# Altium footprint library DFN.PcbLib: 4 footprints
Each footprint in its own frame and in the unit in brackets; x right, y up, seen from the top. Pads: shape width x height; smd on the part's side, far side on the other; paste and mask are expansions set on the pad; w line width, h text height; cw(c..) or ccw(c..) is an arc to the next point about the centre after c.
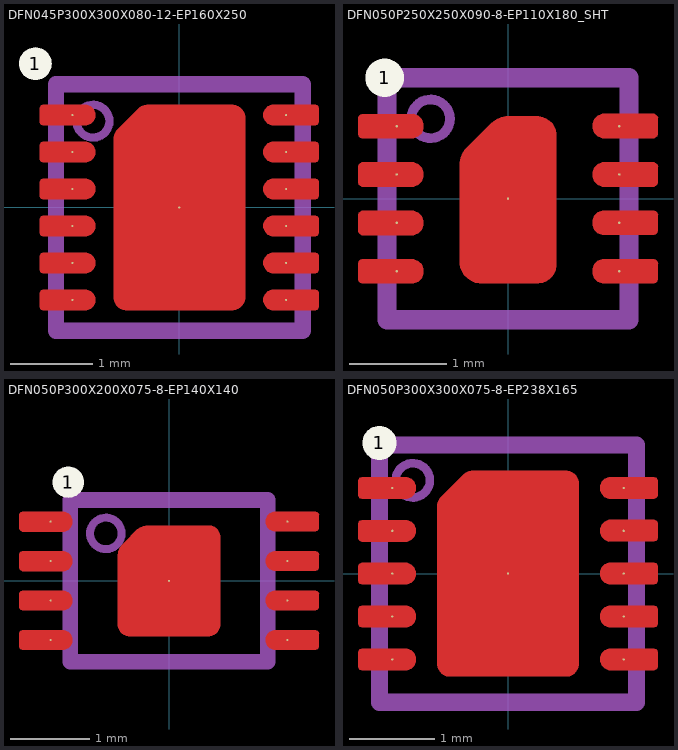
[diagram p0: the footprints below, top view; thin cyan lines are the x and y axes]

## DFN045P300X300X080-12-EP160X250 [mm]
pads (14):
  round 0.4 on Top Overlay: 1(-1.75,1.75)
  round 0.025 smd: 1(-1.3,1.125) 2(-1.3,0.675) 3(-1.3,0.225) 4(-1.3,-0.225) 5(-1.3,-0.675) 6(-1.3,-1.125) 7(1.3,-1.125) 8(1.3,-0.675) 9(1.3,-0.225) 10(1.3,0.225) 11(1.3,0.675) 12(1.3,1.125) EP(0,0)
Top Layer:
  region: 1.7,-1.05 1.7,-1.199 1.7,-1.209 1.692,-1.228 1.678,-1.242 1.659,-1.25 1.649,-1.25 1.15,-1.25 1.125,-1.25 1.079,-1.231 1.043,-1.196 1.024,-1.149 1.024,-1.124 1.024,-1.099 1.043,-1.053 1.079,-1.018 1.125,-0.999 1.15,-0.999 1.649,-0.999 1.659,-0.999 1.678,-1.007 1.692,-1.021 1.7,-1.04
  region: 1.7,-0.6 1.7,-0.749 1.7,-0.759 1.692,-0.778 1.678,-0.792 1.659,-0.8 1.649,-0.8 1.15,-0.8 1.125,-0.8 1.079,-0.781 1.043,-0.746 1.024,-0.699 1.024,-0.674 1.024,-0.649 1.043,-0.603 1.079,-0.568 1.125,-0.549 1.15,-0.549 1.649,-0.549 1.659,-0.549 1.678,-0.557 1.692,-0.571 1.7,-0.59
  region: 1.7,-0.15 1.7,-0.299 1.7,-0.309 1.692,-0.328 1.678,-0.342 1.659,-0.35 1.649,-0.35 1.15,-0.35 1.125,-0.35 1.079,-0.331 1.043,-0.296 1.024,-0.249 1.024,-0.224 1.024,-0.199 1.043,-0.153 1.079,-0.118 1.125,-0.099 1.15,-0.099 1.649,-0.099 1.659,-0.099 1.678,-0.107 1.692,-0.121 1.7,-0.14
  region: 1.7,0.3 1.7,0.151 1.7,0.141 1.692,0.122 1.678,0.108 1.659,0.1 1.649,0.1 1.15,0.1 1.125,0.1 1.079,0.119 1.043,0.154 1.024,0.201 1.024,0.226 1.024,0.251 1.043,0.297 1.079,0.332 1.125,0.351 1.15,0.351 1.649,0.351 1.659,0.351 1.678,0.343 1.692,0.329 1.7,0.31
  region: 1.7,0.75 1.7,0.601 1.7,0.591 1.692,0.572 1.678,0.558 1.659,0.55 1.649,0.55 1.15,0.55 1.125,0.55 1.079,0.569 1.043,0.604 1.024,0.651 1.024,0.676 1.024,0.701 1.043,0.747 1.079,0.782 1.125,0.801 1.15,0.801 1.649,0.801 1.659,0.801 1.678,0.793 1.692,0.779 1.7,0.76
  region: 1.7,1.2 1.7,1.051 1.7,1.041 1.692,1.022 1.678,1.008 1.659,1 1.649,1 1.15,1 1.125,1 1.079,1.019 1.043,1.054 1.024,1.101 1.024,1.126 1.024,1.151 1.043,1.197 1.079,1.232 1.125,1.251 1.15,1.251 1.649,1.251 1.659,1.251 1.678,1.243 1.692,1.229 1.7,1.21
  region: -1.7,-1.2 -1.7,-1.051 -1.7,-1.041 -1.692,-1.022 -1.678,-1.008 -1.659,-1 -1.649,-1 -1.15,-1 -1.125,-1 -1.079,-1.019 -1.043,-1.054 -1.024,-1.101 -1.024,-1.126 -1.024,-1.151 -1.043,-1.197 -1.079,-1.232 -1.125,-1.251 -1.15,-1.251 -1.649,-1.251 -1.659,-1.251 -1.678,-1.243 -1.692,-1.229 -1.7,-1.21
  region: -1.7,-0.75 -1.7,-0.601 -1.7,-0.591 -1.692,-0.572 -1.678,-0.558 -1.659,-0.55 -1.649,-0.55 -1.15,-0.55 -1.125,-0.55 -1.079,-0.569 -1.043,-0.604 -1.024,-0.651 -1.024,-0.676 -1.024,-0.701 -1.043,-0.747 -1.079,-0.782 -1.125,-0.801 -1.15,-0.801 -1.649,-0.801 -1.659,-0.801 -1.678,-0.793 -1.692,-0.779 -1.7,-0.76
  region: -1.7,-0.3 -1.7,-0.151 -1.7,-0.141 -1.692,-0.122 -1.678,-0.108 -1.659,-0.1 -1.649,-0.1 -1.15,-0.1 -1.125,-0.1 -1.079,-0.119 -1.043,-0.154 -1.024,-0.201 -1.024,-0.226 -1.024,-0.251 -1.043,-0.297 -1.079,-0.332 -1.125,-0.351 -1.15,-0.351 -1.649,-0.351 -1.659,-0.351 -1.678,-0.343 -1.692,-0.329 -1.7,-0.31
  region: -1.7,0.15 -1.7,0.299 -1.7,0.309 -1.692,0.328 -1.678,0.342 -1.659,0.35 -1.649,0.35 -1.15,0.35 -1.125,0.35 -1.079,0.331 -1.043,0.296 -1.024,0.249 -1.024,0.224 -1.024,0.199 -1.043,0.153 -1.079,0.118 -1.125,0.099 -1.15,0.099 -1.649,0.099 -1.659,0.099 -1.678,0.107 -1.692,0.121 -1.7,0.14
  region: -1.7,1.05 -1.7,1.199 -1.7,1.209 -1.692,1.228 -1.678,1.242 -1.659,1.25 -1.649,1.25 -1.15,1.25 -1.125,1.25 -1.079,1.231 -1.043,1.196 -1.024,1.149 -1.024,1.124 -1.024,1.099 -1.043,1.053 -1.079,1.018 -1.125,0.999 -1.15,0.999 -1.649,0.999 -1.659,0.999 -1.678,1.007 -1.692,1.021 -1.7,1.04
  region: -0.8,0 -0.8,-1.09 -0.8,-1.106 -0.794,-1.137 -0.782,-1.166 -0.764,-1.192 -0.742,-1.214 -0.716,-1.232 -0.687,-1.244 -0.656,-1.25 -0.64,-1.25 0.64,-1.25 0.656,-1.25 0.687,-1.244 0.716,-1.232 0.742,-1.214 0.764,-1.192 0.782,-1.166 0.794,-1.137 0.8,-1.106 0.8,-1.09 0.8,1.09 0.8,1.106 0.794,1.137 0.782,1.166 0.764,1.192 0.742,1.214 0.716,1.232 0.687,1.244 0.656,1.25 0.64,1.25 0,1.25 -0.379,1.25 -0.396,1.25 -0.429,1.243 -0.46,1.231 -0.488,1.212 -0.5,1.2 -0.75,0.95 -0.762,0.938 -0.781,0.91 -0.793,0.879 -0.8,0.846 -0.8,0.829 -0.8,0.5
  region: -1.7,0.6 -1.7,0.749 -1.7,0.759 -1.692,0.778 -1.678,0.792 -1.659,0.8 -1.649,0.8 -1.15,0.8 -1.125,0.8 -1.079,0.781 -1.043,0.746 -1.024,0.699 -1.024,0.674 -1.024,0.649 -1.043,0.603 -1.079,0.568 -1.125,0.549 -1.15,0.549 -1.649,0.549 -1.659,0.549 -1.678,0.557 -1.692,0.571 -1.7,0.59
Top Assembly:
  circle w0.1: c-1.05,1.05 r0.2
  lines w0.2: -1.5,-1.5 1.5,-1.5 1.5,1.5 -1.5,1.5 -1.5,-1.5
3D body: height 0.81, standoff 0.8, extent -1.25,0.9 -0.85,1.3
3D body: height 0.2, standoff 0, extent -0.8,-1.25 0.8,1.25
3D body: height 0.2, standoff 0, extent 1.01,-1.275 1.51,-0.975
3D body: height 0.2, standoff 0, extent 1.01,-0.825 1.51,-0.525
3D body: height 0.2, standoff 0, extent 1.01,-0.375 1.51,-0.075
3D body: height 0.2, standoff 0, extent 1.01,0.975 1.51,1.275
3D body: height 0.2, standoff 0, extent 1.01,0.525 1.51,0.825
3D body: height 0.2, standoff 0, extent 1.01,0.075 1.51,0.375
3D body: height 0.2, standoff 0, extent -1.51,-1.275 -1.01,-0.975
3D body: height 0.2, standoff 0, extent -1.51,-0.825 -1.01,-0.525
3D body: height 0.2, standoff 0, extent -1.51,-0.375 -1.01,-0.075
3D body: height 0.2, standoff 0, extent -1.51,0.975 -1.01,1.275
3D body: height 0.2, standoff 0, extent -1.51,0.525 -1.01,0.825
3D body: height 0.2, standoff 0, extent -1.51,0.075 -1.01,0.375
3D body: height 0.8, standoff 0.02, extent -1.5,-1.5 1.5,1.5

## DFN050P250X250X090-8-EP110X180_SHT [mm]
pads (10):
  round 0.4 on Top Overlay: 1(-1.275,1.25)
  round 0.025 smd mask+0.05: 1(-1.15,0.75) 2(-1.15,0.25) 3(-1.15,-0.25) 4(-1.15,-0.75) 5(1.15,-0.75) 6(1.15,-0.25) 7(1.15,0.25) 8(1.15,0.75)
  round 0.025 smd: EP(0,0)
Top Layer:
  region: 1.55,-0.675 1.55,-0.824 1.55,-0.834 1.542,-0.853 1.528,-0.867 1.509,-0.875 1.499,-0.875 1,-0.875 0.975,-0.875 0.929,-0.856 0.893,-0.821 0.874,-0.774 0.874,-0.749 0.874,-0.724 0.893,-0.678 0.929,-0.643 0.975,-0.624 1,-0.624 1.499,-0.624 1.509,-0.624 1.528,-0.632 1.542,-0.646 1.55,-0.665
  region: 1.55,-0.175 1.55,-0.324 1.55,-0.334 1.542,-0.353 1.528,-0.367 1.509,-0.375 1.499,-0.375 1,-0.375 0.975,-0.375 0.929,-0.356 0.893,-0.321 0.874,-0.274 0.874,-0.249 0.874,-0.224 0.893,-0.178 0.929,-0.143 0.975,-0.124 1,-0.124 1.499,-0.124 1.509,-0.124 1.528,-0.132 1.542,-0.146 1.55,-0.165
  region: 1.55,0.325 1.55,0.176 1.55,0.166 1.542,0.147 1.528,0.133 1.509,0.125 1.499,0.125 1,0.125 0.975,0.125 0.929,0.144 0.893,0.179 0.874,0.226 0.874,0.251 0.874,0.276 0.893,0.322 0.929,0.357 0.975,0.376 1,0.376 1.499,0.376 1.509,0.376 1.528,0.368 1.542,0.354 1.55,0.335
  region: 1.55,0.825 1.55,0.676 1.55,0.666 1.542,0.647 1.528,0.633 1.509,0.625 1.499,0.625 1,0.625 0.975,0.625 0.929,0.644 0.893,0.679 0.874,0.726 0.874,0.751 0.874,0.776 0.893,0.822 0.929,0.857 0.975,0.876 1,0.876 1.499,0.876 1.509,0.876 1.528,0.868 1.542,0.854 1.55,0.835
  region: -1.55,-0.825 -1.55,-0.676 -1.55,-0.666 -1.542,-0.647 -1.528,-0.633 -1.509,-0.625 -1.499,-0.625 -1,-0.625 -0.975,-0.625 -0.929,-0.644 -0.893,-0.679 -0.874,-0.726 -0.874,-0.751 -0.874,-0.776 -0.893,-0.822 -0.929,-0.857 -0.975,-0.876 -1,-0.876 -1.499,-0.876 -1.509,-0.876 -1.528,-0.868 -1.542,-0.854 -1.55,-0.835
  region: -1.55,-0.325 -1.55,-0.176 -1.55,-0.166 -1.542,-0.147 -1.528,-0.133 -1.509,-0.125 -1.499,-0.125 -1,-0.125 -0.975,-0.125 -0.929,-0.144 -0.893,-0.179 -0.874,-0.226 -0.874,-0.251 -0.874,-0.276 -0.893,-0.322 -0.929,-0.357 -0.975,-0.376 -1,-0.376 -1.499,-0.376 -1.509,-0.376 -1.528,-0.368 -1.542,-0.354 -1.55,-0.335
  region: -1.55,0.675 -1.55,0.824 -1.55,0.834 -1.542,0.853 -1.528,0.867 -1.509,0.875 -1.499,0.875 -1,0.875 -0.975,0.875 -0.929,0.856 -0.893,0.821 -0.874,0.774 -0.874,0.749 -0.874,0.724 -0.893,0.678 -0.929,0.643 -0.975,0.624 -1,0.624 -1.499,0.624 -1.509,0.624 -1.528,0.632 -1.542,0.646 -1.55,0.665
  region: -1.55,0.175 -1.55,0.324 -1.55,0.334 -1.542,0.353 -1.528,0.367 -1.509,0.375 -1.499,0.375 -1,0.375 -0.975,0.375 -0.929,0.356 -0.893,0.321 -0.874,0.274 -0.874,0.249 -0.874,0.224 -0.893,0.178 -0.929,0.143 -0.975,0.124 -1,0.124 -1.499,0.124 -1.509,0.124 -1.528,0.132 -1.542,0.146 -1.55,0.165
  region: -0.5,-0.65 -0.5,-0.672 -0.491,-0.716 -0.474,-0.757 -0.45,-0.793 -0.418,-0.825 -0.382,-0.849 -0.341,-0.866 -0.297,-0.875 -0.275,-0.875 0.3,-0.875 0.32,-0.875 0.358,-0.867 0.395,-0.852 0.427,-0.83 0.455,-0.802 0.477,-0.77 0.492,-0.733 0.5,-0.695 0.5,-0.675 0.5,0.65 0.5,0.67 0.492,0.708 0.477,0.745 0.455,0.777 0.427,0.805 0.395,0.827 0.358,0.842 0.32,0.85 0.3,0.85 0,0.85 -0.024,0.85 -0.07,0.841 -0.114,0.823 -0.154,0.796 -0.171,0.779 -0.429,0.521 -0.446,0.504 -0.473,0.464 -0.491,0.42 -0.5,0.374 -0.5,0.35
Top Assembly:
  circle w0.1: c-0.8,0.825 r0.2
  lines w0.2: -1.25,-1.25 1.25,-1.25 1.25,1.25 -1.25,1.25 -1.25,-1.25
3D body "DFN050P250X250X090-8-EP110X180.stp": height 0.96, standoff 0.01, extent -1.255,-1.26 1.255,1.26

## DFN050P300X200X075-8-EP140X140 [mm]
pads (10):
  round 0.025 smd mask+0.05: 1(-1.5,0.75) 2(-1.5,0.25) 3(-1.5,-0.25) 4(-1.5,-0.75) 5(1.5,-0.75) 6(1.5,-0.25) 7(1.5,0.25) 8(1.5,0.75)
  round 0.4 on Top Overlay: 1(-1.275,1.25)
  round 0.025 smd: EP(0,0)
Top Layer:
  region: 1.9,-0.675 1.9,-0.824 1.9,-0.834 1.892,-0.853 1.878,-0.867 1.859,-0.875 1.849,-0.875 1.35,-0.875 1.325,-0.875 1.279,-0.856 1.243,-0.821 1.224,-0.774 1.224,-0.749 1.224,-0.724 1.243,-0.678 1.279,-0.643 1.325,-0.624 1.35,-0.624 1.849,-0.624 1.859,-0.624 1.878,-0.632 1.892,-0.646 1.9,-0.665
  region: 1.9,-0.175 1.9,-0.324 1.9,-0.334 1.892,-0.353 1.878,-0.367 1.859,-0.375 1.849,-0.375 1.35,-0.375 1.325,-0.375 1.279,-0.356 1.243,-0.321 1.224,-0.274 1.224,-0.249 1.224,-0.224 1.243,-0.178 1.279,-0.143 1.325,-0.124 1.35,-0.124 1.849,-0.124 1.859,-0.124 1.878,-0.132 1.892,-0.146 1.9,-0.165
  region: 1.9,0.325 1.9,0.176 1.9,0.166 1.892,0.147 1.878,0.133 1.859,0.125 1.849,0.125 1.35,0.125 1.325,0.125 1.279,0.144 1.243,0.179 1.224,0.226 1.224,0.251 1.224,0.276 1.243,0.322 1.279,0.357 1.325,0.376 1.35,0.376 1.849,0.376 1.859,0.376 1.878,0.368 1.892,0.354 1.9,0.335
  region: 1.9,0.825 1.9,0.676 1.9,0.666 1.892,0.647 1.878,0.633 1.859,0.625 1.849,0.625 1.35,0.625 1.325,0.625 1.279,0.644 1.243,0.679 1.224,0.726 1.224,0.751 1.224,0.776 1.243,0.822 1.279,0.857 1.325,0.876 1.35,0.876 1.849,0.876 1.859,0.876 1.878,0.868 1.892,0.854 1.9,0.835
  region: -1.9,-0.825 -1.9,-0.676 -1.9,-0.666 -1.892,-0.647 -1.878,-0.633 -1.859,-0.625 -1.849,-0.625 -1.35,-0.625 -1.325,-0.625 -1.279,-0.644 -1.243,-0.679 -1.224,-0.726 -1.224,-0.751 -1.224,-0.776 -1.243,-0.822 -1.279,-0.857 -1.325,-0.876 -1.35,-0.876 -1.849,-0.876 -1.859,-0.876 -1.878,-0.868 -1.892,-0.854 -1.9,-0.835
  region: -1.9,-0.325 -1.9,-0.176 -1.9,-0.166 -1.892,-0.147 -1.878,-0.133 -1.859,-0.125 -1.849,-0.125 -1.35,-0.125 -1.325,-0.125 -1.279,-0.144 -1.243,-0.179 -1.224,-0.226 -1.224,-0.251 -1.224,-0.276 -1.243,-0.322 -1.279,-0.357 -1.325,-0.376 -1.35,-0.376 -1.849,-0.376 -1.859,-0.376 -1.878,-0.368 -1.892,-0.354 -1.9,-0.335
  region: -1.9,0.675 -1.9,0.824 -1.9,0.834 -1.892,0.853 -1.878,0.867 -1.859,0.875 -1.849,0.875 -1.35,0.875 -1.325,0.875 -1.279,0.856 -1.243,0.821 -1.224,0.774 -1.224,0.749 -1.224,0.724 -1.243,0.678 -1.279,0.643 -1.325,0.624 -1.35,0.624 -1.849,0.624 -1.859,0.624 -1.878,0.632 -1.892,0.646 -1.9,0.665
  region: -1.9,0.175 -1.9,0.324 -1.9,0.334 -1.892,0.353 -1.878,0.367 -1.859,0.375 -1.849,0.375 -1.35,0.375 -1.325,0.375 -1.279,0.356 -1.243,0.321 -1.224,0.274 -1.224,0.249 -1.224,0.224 -1.243,0.178 -1.279,0.143 -1.325,0.124 -1.35,0.124 -1.849,0.124 -1.859,0.124 -1.878,0.132 -1.892,0.146 -1.9,0.165
  region: -0.65,-0.55 -0.65,0.294 -0.65,0.319 -0.64,0.369 -0.621,0.415 -0.593,0.457 -0.575,0.475 -0.4,0.65 -0.388,0.662 -0.36,0.681 -0.329,0.693 -0.296,0.7 -0.279,0.7 0.5,0.7 0.515,0.7 0.544,0.694 0.571,0.683 0.596,0.667 0.617,0.646 0.633,0.621 0.644,0.594 0.65,0.565 0.65,0.55 0.65,-0.55 0.65,-0.565 0.644,-0.594 0.633,-0.621 0.617,-0.646 0.596,-0.667 0.571,-0.683 0.544,-0.694 0.515,-0.7 0.5,-0.7 -0.5,-0.7 -0.515,-0.7 -0.544,-0.694 -0.571,-0.683 -0.596,-0.667 -0.617,-0.646 -0.633,-0.621 -0.644,-0.594 -0.65,-0.565
Top Assembly:
  circle w0.1: c-0.8,0.6 r0.2
  lines w0.2: -1.25,-1.025 1.25,-1.025 1.25,1.025 -1.25,1.025 -1.25,-1.025
3D body "DFN050P300X200X075-8-EP140X140.stp": height 0.96, standoff 0.01, extent -1.505,-1.01 1.505,1.01

## DFN050P300X300X075-8-EP238X165 [mm]
pads (12):
  round 0.4 on Top Overlay: 1(-1.5,1.525)
  round 0.025 smd mask+0.05: 1(-1.35,1) 2(-1.35,0.5) 3(-1.35,0) 4(-1.35,-0.5) 5(-1.35,-1) 6(1.35,-1) 7(1.35,-0.5) 8(1.35,0) 9(1.35,0.5) 10(1.35,1)
  round 0.025 smd: EP(0,0)
Top Layer:
  region: -1.75,-1.075 -1.75,-0.926 -1.75,-0.916 -1.742,-0.897 -1.728,-0.883 -1.709,-0.875 -1.699,-0.875 -1.2,-0.875 -1.175,-0.875 -1.129,-0.894 -1.093,-0.929 -1.074,-0.976 -1.074,-1.001 -1.074,-1.026 -1.093,-1.072 -1.129,-1.107 -1.175,-1.126 -1.2,-1.126 -1.699,-1.126 -1.709,-1.126 -1.728,-1.118 -1.742,-1.104 -1.75,-1.085
  region: 1.75,-0.925 1.75,-1.074 1.75,-1.084 1.742,-1.103 1.728,-1.117 1.709,-1.125 1.699,-1.125 1.2,-1.125 1.175,-1.125 1.129,-1.106 1.093,-1.071 1.074,-1.024 1.074,-0.999 1.074,-0.974 1.093,-0.928 1.129,-0.893 1.175,-0.874 1.2,-0.874 1.699,-0.874 1.709,-0.874 1.728,-0.882 1.742,-0.896 1.75,-0.915
  region: 1.75,-0.425 1.75,-0.574 1.75,-0.584 1.742,-0.603 1.728,-0.617 1.709,-0.625 1.699,-0.625 1.2,-0.625 1.175,-0.625 1.129,-0.606 1.093,-0.571 1.074,-0.524 1.074,-0.499 1.074,-0.474 1.093,-0.428 1.129,-0.393 1.175,-0.374 1.2,-0.374 1.699,-0.374 1.709,-0.374 1.728,-0.382 1.742,-0.396 1.75,-0.415
  region: 1.75,0.075 1.75,-0.074 1.75,-0.084 1.742,-0.103 1.728,-0.117 1.709,-0.125 1.699,-0.125 1.2,-0.125 1.175,-0.125 1.129,-0.106 1.093,-0.071 1.074,-0.024 1.074,0.001 1.074,0.026 1.093,0.072 1.129,0.107 1.175,0.126 1.2,0.126 1.699,0.126 1.709,0.126 1.728,0.118 1.742,0.104 1.75,0.085
  region: -1.75,-0.575 -1.75,-0.426 -1.75,-0.416 -1.742,-0.397 -1.728,-0.383 -1.709,-0.375 -1.699,-0.375 -1.2,-0.375 -1.175,-0.375 -1.129,-0.394 -1.093,-0.429 -1.074,-0.476 -1.074,-0.501 -1.074,-0.526 -1.093,-0.572 -1.129,-0.607 -1.175,-0.626 -1.2,-0.626 -1.699,-0.626 -1.709,-0.626 -1.728,-0.618 -1.742,-0.604 -1.75,-0.585
  region: -1.75,-0.075 -1.75,0.074 -1.75,0.084 -1.742,0.103 -1.728,0.117 -1.709,0.125 -1.699,0.125 -1.2,0.125 -1.175,0.125 -1.129,0.106 -1.093,0.071 -1.074,0.024 -1.074,-0.001 -1.074,-0.026 -1.093,-0.072 -1.129,-0.107 -1.175,-0.126 -1.2,-0.126 -1.699,-0.126 -1.709,-0.126 -1.728,-0.118 -1.742,-0.104 -1.75,-0.085
  region: -1.75,0.925 -1.75,1.074 -1.75,1.084 -1.742,1.103 -1.728,1.117 -1.709,1.125 -1.699,1.125 -1.2,1.125 -1.175,1.125 -1.129,1.106 -1.093,1.071 -1.074,1.024 -1.074,0.999 -1.074,0.974 -1.093,0.928 -1.129,0.893 -1.175,0.874 -1.2,0.874 -1.699,0.874 -1.709,0.874 -1.728,0.882 -1.742,0.896 -1.75,0.915
  region: -1.75,0.425 -1.75,0.574 -1.75,0.584 -1.742,0.603 -1.728,0.617 -1.709,0.625 -1.699,0.625 -1.2,0.625 -1.175,0.625 -1.129,0.606 -1.093,0.571 -1.074,0.524 -1.074,0.499 -1.074,0.474 -1.093,0.428 -1.129,0.393 -1.175,0.374 -1.2,0.374 -1.699,0.374 -1.709,0.374 -1.728,0.382 -1.742,0.396 -1.75,0.415
  region: 1.75,0.575 1.75,0.426 1.75,0.416 1.742,0.397 1.728,0.383 1.709,0.375 1.699,0.375 1.2,0.375 1.175,0.375 1.129,0.394 1.093,0.429 1.074,0.476 1.074,0.501 1.074,0.526 1.093,0.572 1.129,0.607 1.175,0.626 1.2,0.626 1.699,0.626 1.709,0.626 1.728,0.618 1.742,0.604 1.75,0.585
  region: 1.75,1.075 1.75,0.926 1.75,0.916 1.742,0.897 1.728,0.883 1.709,0.875 1.699,0.875 1.2,0.875 1.175,0.875 1.129,0.894 1.093,0.929 1.074,0.976 1.074,1.001 1.074,1.026 1.093,1.072 1.129,1.107 1.175,1.126 1.2,1.126 1.699,1.126 1.709,1.126 1.728,1.118 1.742,1.104 1.75,1.085
  region: 0.675,-1.2 0.69,-1.2 0.719,-1.194 0.746,-1.183 0.771,-1.167 0.792,-1.146 0.808,-1.121 0.819,-1.094 0.825,-1.065 0.825,-1.05 0.825,1.05 0.825,1.065 0.819,1.094 0.808,1.121 0.792,1.146 0.771,1.167 0.746,1.183 0.719,1.194 0.69,1.2 0.675,1.2 -0.415,1.2 -0.429,1.2 -0.457,1.194 -0.484,1.183 -0.508,1.167 -0.518,1.157 -0.782,0.893 -0.792,0.883 -0.808,0.859 -0.819,0.832 -0.825,0.804 -0.825,0.79 -0.825,-1.05 -0.825,-1.065 -0.819,-1.094 -0.808,-1.121 -0.792,-1.146 -0.771,-1.167 -0.746,-1.183 -0.719,-1.194 -0.69,-1.2 -0.675,-1.2
Top Assembly:
  circle w0.1: c-1.111,1.088 r0.2
  lines w0.2: -1.5,-1.5 1.5,-1.5 1.5,1.5 -1.5,1.5 -1.5,-1.5
3D body "DFN050P300X300X075-8-EP238X165.step": height 0.76, standoff 0.01, extent -1.51,-1.5 1.51,1.5